# Altium schematic symbol library res1k5.SchLib: 1 symbol
Pins are listed as number, name and electrical type; pins without a type are passive.

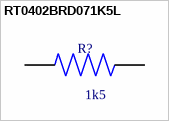
[diagram p0: symbol RT0402BRD071K5L]

## RT0402BRD071K5L
designator R?  value 1k5  (hidden comment: *)
1.5 kOhms Â±0.1% 0.063W, 1/16W Chip Resistor 0402 (1005 Metric) - Thin Film; MF: Yageo; MP: RT0402BRD071K5L; SnapEDA_Link: https://www.snapeda.com/parts/RT0402BRD071K5L/Yageo/view-part/?ref=snap; Package: 1005 Yageo; Check_prices: https://www.snapeda.com/parts/RT0402BRD071K5L/Yageo/view-part/?ref=eda; LCSC Part Number: C281775
footprint RESC1005X35N
pins: 1, 2